# Altium schematic symbol library WE-LHMD.SchLib: 8 symbols
Pins are listed as number, name and electrical type; pins without a type are passive.

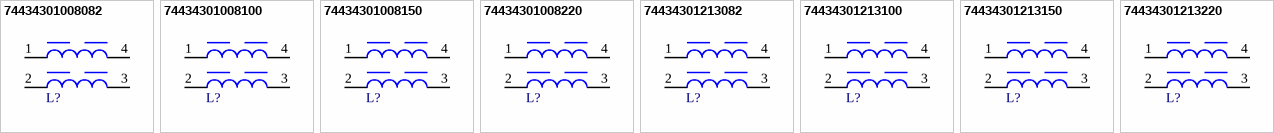
[diagram p0: symbols 74434301008082 to 74434301213220]

## 74434301008082
designator L?, comment 8.2µH, 3.5A  (value not drawn)
WE-LHMD SMT High Current Inductor, size 1008, 8.2µH, 3.5A; Manufacturer Part Number: 74434301008082; Manufacturer: Wurth Elektronik; Case/Size Code: 1008; DC Resistance: 32mΩ; Inductance Tolerance: +/-15%; Saturation Current: 20A; Category: Inductors for Digital Audio; Match Code: WE-LHMD; ComponentLink1Description: Website Link; ComponentLink1URL: https://www.we-online.com/redexpert/article/74434301008082?ad; ComponentLink2Description: Datasheet Link; ComponentLink2URL: https://www.we-online.com/redexpert/spec/74434301008082?ad; Mount: Surface Mount; Operating Temperature Max: 125°C; Operating Temperature Min: -40°C; Packaging: Tape and Reel; Length: 10mm; Width: 10mm; Height: 8mm; Inductance: 8.2µH; Rated Current: 3.5A
footprint WE-LHMD_1008
simulation model 1008_74434301008082_8.2u
pins: 1, 2, 3, 4

## 74434301008100
designator L?, comment 10µH, 3.2A  (value not drawn)
WE-LHMD SMT High Current Inductor, size 1008, 10µH, 3.2A; Manufacturer Part Number: 74434301008100; Manufacturer: Wurth Elektronik; Case/Size Code: 1008; DC Resistance: 45mΩ; Inductance Tolerance: +/-15%; Saturation Current: 18A; Category: Inductors for Digital Audio; Match Code: WE-LHMD; ComponentLink1Description: Website Link; ComponentLink1URL: https://www.we-online.com/redexpert/article/74434301008100?ad; ComponentLink2Description: Datasheet Link; ComponentLink2URL: https://www.we-online.com/redexpert/spec/74434301008100?ad; Mount: Surface Mount; Operating Temperature Max: 125°C; Operating Temperature Min: -40°C; Packaging: Tape and Reel; Length: 10mm; Width: 10mm; Height: 8mm; Inductance: 10µH; Rated Current: 3.2A
footprint WE-LHMD_1008
simulation model 1008_74434301008100_10u
pins: 1, 2, 3, 4

## 74434301008150
designator L?, comment 15µH, 2.5A  (value not drawn)
WE-LHMD SMT High Current Inductor, size 1008, 15µH, 2.5A; Manufacturer Part Number: 74434301008150; Manufacturer: Wurth Elektronik; Case/Size Code: 1008; DC Resistance: 65mΩ; Inductance Tolerance: +/-15%; Saturation Current: 15A; Category: Inductors for Digital Audio; Match Code: WE-LHMD; ComponentLink1Description: Website Link; ComponentLink1URL: https://www.we-online.com/redexpert/article/74434301008150?ad; ComponentLink2Description: Datasheet Link; ComponentLink2URL: https://www.we-online.com/redexpert/spec/74434301008150?ad; Mount: Surface Mount; Operating Temperature Max: 125°C; Operating Temperature Min: -40°C; Packaging: Tape and Reel; Length: 10mm; Width: 10mm; Height: 8mm; Inductance: 15µH; Rated Current: 2.5A
footprint WE-LHMD_1008
simulation model 1008_74434301008150_15u
pins: 1, 2, 3, 4

## 74434301008220
designator L?, comment 22µH, 2A  (value not drawn)
WE-LHMD SMT High Current Inductor, size 1008, 22µH, 2A; Manufacturer Part Number: 74434301008220; Manufacturer: Wurth Elektronik; Case/Size Code: 1008; DC Resistance: 104mΩ; Inductance Tolerance: +/-15%; Saturation Current: 13A; Category: Inductors for Digital Audio; Match Code: WE-LHMD; ComponentLink1Description: Website Link; ComponentLink1URL: https://www.we-online.com/redexpert/article/74434301008220?ad; ComponentLink2Description: Datasheet Link; ComponentLink2URL: https://www.we-online.com/redexpert/spec/74434301008220?ad; Mount: Surface Mount; Operating Temperature Max: 125°C; Operating Temperature Min: -40°C; Packaging: Tape and Reel; Length: 10mm; Width: 10mm; Height: 8mm; Inductance: 22µH; Rated Current: 2A
footprint WE-LHMD_1008
simulation model 1008_74434301008220_22u
pins: 1, 2, 3, 4

## 74434301213082
designator L?, comment 8.2µH, 7A  (value not drawn)
WE-LHMD SMT High Current Inductor, size 1213, 8.2µH, 7A; Manufacturer Part Number: 74434301213082; Manufacturer: Wurth Elektronik; Case/Size Code: 1213; DC Resistance: 16mΩ; Inductance Tolerance: +/-15%; Saturation Current: 25A; Category: Inductors for Digital Audio; Match Code: WE-LHMD; ComponentLink1Description: Website Link; ComponentLink1URL: https://www.we-online.com/redexpert/article/74434301213082?ad; ComponentLink2Description: Datasheet Link; ComponentLink2URL: https://www.we-online.com/redexpert/spec/74434301213082?ad; Mount: Surface Mount; Operating Temperature Max: 125°C; Operating Temperature Min: -40°C; Packaging: Tape and Reel; Length: 12.85mm; Width: 12.85mm; Height: 13mm; Inductance: 8.2µH; Rated Current: 7A
footprint WE-LHMD_1213
simulation model 1213_74434301213082_8.2u
pins: 1, 2, 3, 4

## 74434301213100
designator L?, comment 10µH, 6A  (value not drawn)
WE-LHMD SMT High Current Inductor, size 1213, 10µH, 6A; Manufacturer Part Number: 74434301213100; Manufacturer: Wurth Elektronik; Case/Size Code: 1213; DC Resistance: 20mΩ; Inductance Tolerance: +/-15%; Saturation Current: 21A; Category: Inductors for Digital Audio; Match Code: WE-LHMD; ComponentLink1Description: Website Link; ComponentLink1URL: https://www.we-online.com/redexpert/article/74434301213100?ad; ComponentLink2Description: Datasheet Link; ComponentLink2URL: https://www.we-online.com/redexpert/spec/74434301213100?ad; Mount: Surface Mount; Operating Temperature Max: 125°C; Operating Temperature Min: -40°C; Packaging: Tape and Reel; Length: 12.85mm; Width: 12.85mm; Height: 13mm; Inductance: 10µH; Rated Current: 6A
footprint WE-LHMD_1213
simulation model 1213_74434301213100_10u
pins: 1, 2, 3, 4

## 74434301213150
designator L?, comment 15µH, 4.5A  (value not drawn)
WE-LHMD SMT High Current Inductor, size 1213, 15µH, 4.5A; Manufacturer Part Number: 74434301213150; Manufacturer: Wurth Elektronik; Case/Size Code: 1213; DC Resistance: 34mΩ; Inductance Tolerance: +/-15%; Saturation Current: 16A; Category: Inductors for Digital Audio; Match Code: WE-LHMD; ComponentLink1Description: Website Link; ComponentLink1URL: https://www.we-online.com/redexpert/article/74434301213150?ad; ComponentLink2Description: Datasheet Link; ComponentLink2URL: https://www.we-online.com/redexpert/spec/74434301213150?ad; Mount: Surface Mount; Operating Temperature Max: 125°C; Operating Temperature Min: -40°C; Packaging: Tape and Reel; Length: 12.85mm; Width: 12.85mm; Height: 13mm; Inductance: 15µH; Rated Current: 4.5A
footprint WE-LHMD_1213
simulation model 1213_74434301213150_15u
pins: 1, 2, 3, 4

## 74434301213220
designator L?, comment 22µH, 4A  (value not drawn)
WE-LHMD SMT High Current Inductor, size 1213, 22µH, 4A; Manufacturer Part Number: 74434301213220; Manufacturer: Wurth Elektronik; Case/Size Code: 1213; DC Resistance: 50mΩ; Inductance Tolerance: +/-15%; Saturation Current: 15A; Category: Inductors for Digital Audio; Match Code: WE-LHMD; ComponentLink1Description: Website Link; ComponentLink1URL: https://www.we-online.com/redexpert/article/74434301213220?ad; ComponentLink2Description: Datasheet Link; ComponentLink2URL: https://www.we-online.com/redexpert/spec/74434301213220?ad; Mount: Surface Mount; Operating Temperature Max: 125°C; Operating Temperature Min: -40°C; Packaging: Tape and Reel; Length: 12.85mm; Width: 12.85mm; Height: 13mm; Inductance: 22µH; Rated Current: 4A
footprint WE-LHMD_1213
simulation model 1213_74434301213220_22u
pins: 1, 2, 3, 4